# Altium footprint library Revo_element_shinyoon.PcbLib: 5 footprints
Each footprint in its own frame and in the unit in brackets; x right, y up, seen from the top. Pads: shape width x height; smd on the part's side, far side on the other; paste and mask are expansions set on the pad; w line width, h text height; cw(c..) or ccw(c..) is an arc to the next point about the centre after c.
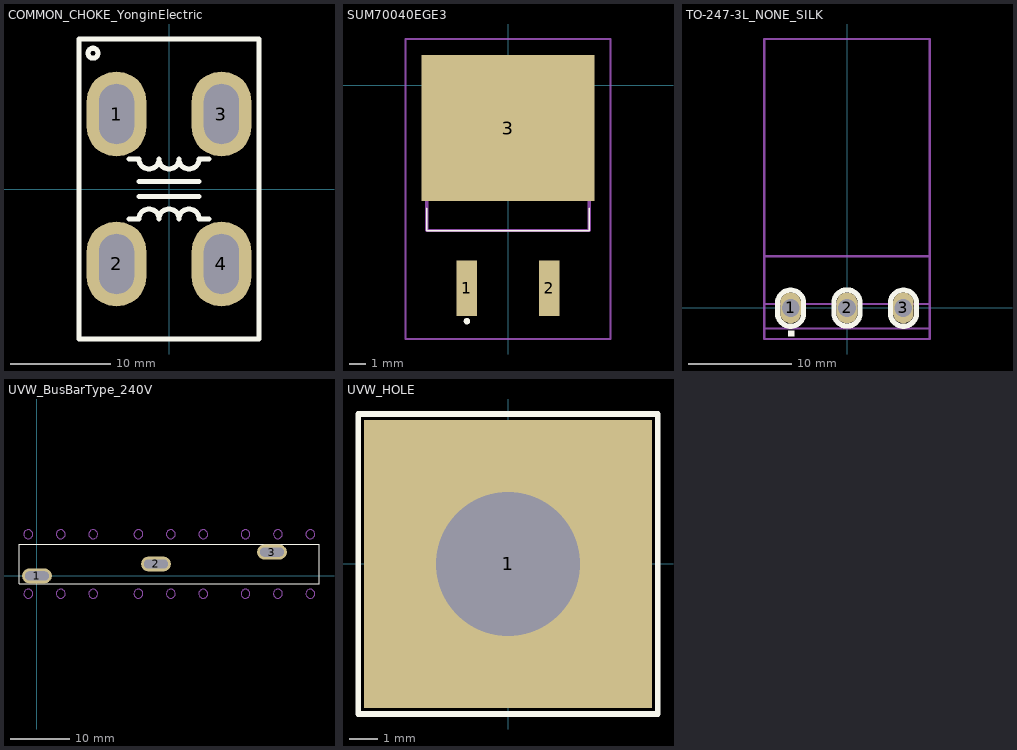
[diagram p0: the footprints below, top view; thin cyan lines are the x and y axes]

## COMMON_CHOKE_YonginElectric [mm]
pads (4):
  oval 6x8.5 hole 3.5 slot 6 at 90 deg: 1(-5.25,7.5) 2(-5.25,-7.5) 3(5.25,7.5) 4(5.25,-7.5)
Top Overlay:
  lines w0.5: -4,-3 -3,-3 cw(c-2,-3) -1,-3 cw(c0,-3) 1,-3 cw(c2,-3) 3,-3 4,-3 ; -4,3 -3,3 ccw(c-2,3) -1,3 ccw(c0,3) 1,3 ccw(c2,3) 3,3 4,3 ; -3,-0.75 3,-0.75 ; -3,0.75 3,0.75 ; -9,-15 9,-15 9,15 -9,15 -9,-15 ; -8.1,13.58 cw(c-7.6,13.58) -7.1,13.58 cw(c-7.6,13.58) -8.1,13.58

## SUM70040EGE3 [mil]
pads (3):
  rect 49.49x135 smd: 1(-100,-495.16) 2(100,-495.16)
  rect 420x355 smd: 3(0,-104.84)
Top Overlay:
  lines w3.94: -197.48,-300 -197.48,-354.33 197.48,-354.33 197.48,-300
  lines w7.87: -103.94,-574.8 ccw(c-100,-574.8) -96.06,-574.8 ccw(c-100,-574.8) -103.94,-574.8
Mechanical 13:
  lines w7.87: -197.48,-354.33 -197.48,0 197.48,0 197.48,-354.33 -197.48,-354.33
Mechanical 15:
  lines w3.94: -249.37,-618.11 -249.37,112.01 249.37,112.01 249.37,-618.11 -249.37,-618.11
3D body "SQM100N10-10_GE3.stp": height 187.79, standoff -9.85, extent -200,-549.08 200,51.85

## TO-247-3L_NONE_SILK [mm]
pads (3):
  oval 2x3 hole 1.7: 1(-5.45,0) 2(0,0) 3(5.45,0)
Top Overlay:
  rectangle: -5.72,-2.78 -5.06,-2.19
  lines w0.5: -6.697,-0.222 -6.697,0.678 cw(c-5.447,0.458) -4.197,0.678 -4.197,-0.222 ; -6.697,0.178 -6.697,-0.722 ccw(c-5.447,-0.502) -4.197,-0.722 -4.197,0.178 ; -1.25,-0.2 -1.25,0.7 cw(c0,0.48) 1.25,0.7 1.25,-0.2 ; -1.25,0.2 -1.25,-0.7 ccw(c0,-0.48) 1.25,-0.7 1.25,0.2 ; 4.203,-0.222 4.203,0.678 cw(c5.453,0.458) 6.703,0.678 6.703,-0.222 ; 4.203,0.178 4.203,-0.722 ccw(c5.453,-0.502) 6.703,-0.722 6.703,0.178
Bottom Overlay:
  region: -5.06,-2.2 -5.72,-2.2 -5.72,-2.79 -5.06,-2.79
  lines w0.5: -6.697,-0.722 ccw(c-5.447,-0.502) -4.197,-0.722 ; -6.697,-0.722 ccw(c-5.447,-0.502) -4.197,-0.722 ; -6.697,-0.722 -6.697,0.178 -6.697,-0.722 ; -6.697,0.678 cw(c-5.447,0.458) -4.197,0.678 ; -6.697,0.678 cw(c-5.447,0.458) -4.197,0.678 ; -6.697,0.678 -6.697,-0.222 -6.697,0.678 ; -4.197,-0.722 -4.197,0.178 -4.197,-0.722 ; -4.197,0.678 -4.197,-0.222 -4.197,0.678 ; -1.25,-0.7 ccw(c0,-0.48) 1.25,-0.7 ; -1.25,-0.7 ccw(c0,-0.48) 1.25,-0.7 ; -1.25,-0.7 -1.25,0.2 -1.25,-0.7 ; -1.25,0.7 cw(c0,0.48) 1.25,0.7 ; -1.25,0.7 cw(c0,0.48) 1.25,0.7 ; -1.25,0.7 -1.25,-0.2 -1.25,0.7 ; 1.25,-0.7 1.25,0.2 1.25,-0.7 ; 1.25,0.7 1.25,-0.2 1.25,0.7 ; 4.203,-0.722 ccw(c5.453,-0.502) 6.703,-0.722 ; 4.203,-0.722 ccw(c5.453,-0.502) 6.703,-0.722 ; 4.203,-0.722 4.203,0.178 4.203,-0.722 ; 4.203,0.678 cw(c5.453,0.458) 6.703,0.678 ; 4.203,0.678 cw(c5.453,0.458) 6.703,0.678 ; 4.203,0.678 4.203,-0.222 4.203,0.678 ; 6.703,-0.722 6.703,0.178 6.703,-0.722 ; 6.703,0.678 6.703,-0.222 6.703,0.678
Mechanical 1:
  lines w0.2: -8,0.381 8,0.381 ; -8,2.25 -8,-2 ; -7,-2 -8,-2 ; 7,-2 8,-2 ; 8,2.25 8,-2 ; -8,-2 8,-2 ; -8,-2 -8,26 8,26 8,-2 ; -8,-3 -8,5 8,5 8,-3 -8,-3
3D body "TO247.step": height 4.96, standoff -12.9, extent -7.973,-0.125 7.942,26.7

## UVW_BusBarType_240V [mm]
pads (3):
  oval 5x2.5 hole 1.5 slot 4 at 0 deg: 1(0,0) 2(20,2) 3(39.5,4)
Top Overlay:
  lines w0.2: -3.018,-1.357 -3.018,5.358 47.407,5.358 47.407,-1.357 -3.018,-1.357
Mechanical 1:
  drawing of 484 lines, arcs and shapes, not listed

## UVW_HOLE [mm]
pads (1):
  rect 10x10 hole 5: 1(0,0)
Top Overlay:
  lines w0.2: -5.2,-5.21 5.2,-5.21 5.2,5.2 -5.2,5.2 -5.2,-5.21